# Altium schematic symbol library IC_Texas_Instruments_TLC5955RTQR_eec.SchLib: 1 symbol
Pins are listed as number, name and electrical type; pins without a type are passive.

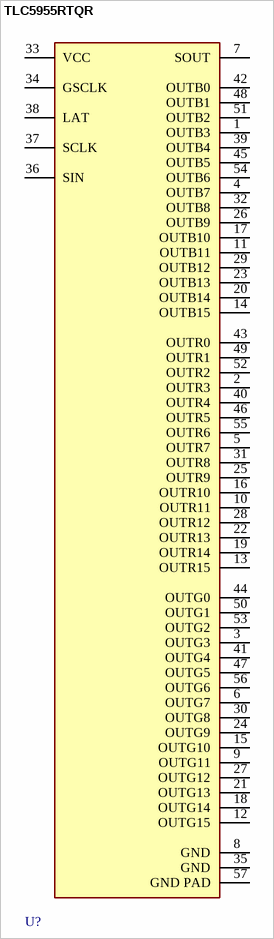
[diagram p0: symbol TLC5955RTQR]

## TLC5955RTQR
designator U?  (value not drawn)
pins: 1 OUTB3, 2 OUTR3, 3 OUTG3, 4 OUTB7, 5 OUTR7, 6 OUTG7, 7 SOUT, 8 GND, 9 OUTG11, 10 OUTR11, 11 OUTB11, 12 OUTG15, 13 OUTR15, 14 OUTB15, 15 OUTG10, 16 OUTR10, 17 OUTB10, 18 OUTG14, 19 OUTR14, 20 OUTB14, 21 OUTG13, 22 OUTR13, 23 OUTB13, 24 OUTG9, 25 OUTR9, 26 OUTB9, 27 OUTG12, 28 OUTR12, 29 OUTB12, 30 OUTG8, 31 OUTR8, 32 OUTB8, 33 VCC, 34 GSCLK, 35 GND, 36 SIN, 37 SCLK, 38 LAT, 39 OUTB4, 40 OUTR4, 41 OUTG4, 42 OUTB0, 43 OUTR0, 44 OUTG0, 45 OUTB5, 46 OUTR5, 47 OUTG5, 48 OUTB1, 49 OUTR1, 50 OUTG1, 51 OUTB2, 52 OUTR2, 53 OUTG2, 54 OUTB6, 55 OUTR6, 56 OUTG6, 57 GND PAD